# EAGLE library part ATMEGA644P/V_TQFP2 (library AVR micom)
ATMEGA644P TQFP pacage AVR micon series. producted by ATMEL.Co
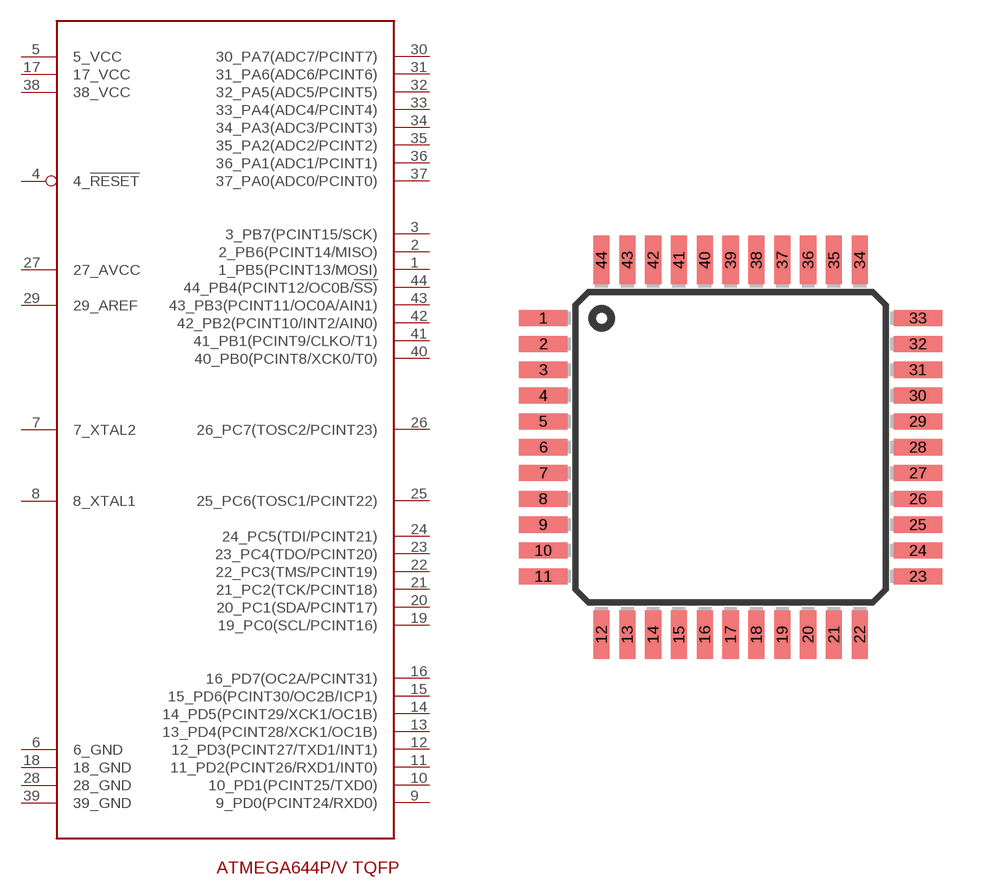
[diagram p2: symbol with the pads of TQFP44; footprint TQFP44]

Designator prefix U

## ATMEGA644P/V_TQFP2  [TQFP44]
1  1_PB5(PCINT13/MOSI)
2  2_PB6(PCINT14/MISO)
3  3_PB7(PCINT15/SCK)
4  4_!RESET
5  5_VCC
6  6_GND
7  7_XTAL2
8  8_XTAL1
9  9_PD0(PCINT24/RXD0)
10  10_PD1(PCINT25/TXD0)
11  11_PD2(PCINT26/RXD1/INT0)
12  12_PD3(PCINT27/TXD1/INT1)
13  13_PD4(PCINT28/XCK1/OC1B)
14  14_PD5(PCINT29/XCK1/OC1B)
15  15_PD6(PCINT30/OC2B/ICP1)
16  16_PD7(OC2A/PCINT31)
17  17_VCC
18  18_GND
19  19_PC0(SCL/PCINT16)
20  20_PC1(SDA/PCINT17)
21  21_PC2(TCK/PCINT18)
22  22_PC3(TMS/PCINT19)
23  23_PC4(TDO/PCINT20)
24  24_PC5(TDI/PCINT21)
25  25_PC6(TOSC1/PCINT22)
26  26_PC7(TOSC2/PCINT23)
27  27_AVCC
28  28_GND
29  29_AREF
30  30_PA7(ADC7/PCINT7)
31  31_PA6(ADC6/PCINT6)
32  32_PA5(ADC5/PCINT5)
33  33_PA4(ADC4/PCINT4)
34  34_PA3(ADC3/PCINT3)
35  35_PA2(ADC2/PCINT2)
36  36_PA1(ADC1/PCINT1)
37  37_PA0(ADC0/PCINT0)
38  38_VCC
39  39_GND
40  40_PB0(PCINT8/XCK0/T0)
41  41_PB1(PCINT9/CLKO/T1)
42  42_PB2(PCINT10/INT2/AIN0)
43  43_PB3(PCINT11/OC0A/AIN1)
44  44_PB4(PCINT12/OC0B/!SS)

## Footprint TQFP44 (pad centres in mm)
Thin Plasic Quad Flat Package
smd 1.5 x 0.5: 1 -5.8,4; 2 -5.8,3.2; 3 -5.8,2.4; 4 -5.8,1.6; 5 -5.8,0.8; 6 -5.8,0; 7 -5.8,-0.8; 8 -5.8,-1.6; 9 -5.8,-2.4; 10 -5.8,-3.2; 11 -5.8,-4; 23 5.8,-4; 24 5.8,-3.2; 25 5.8,-2.4; 26 5.8,-1.6; 27 5.8,-0.8; 28 5.8,0; 29 5.8,0.8; 30 5.8,1.6; 31 5.8,2.4; 32 5.8,3.2; 33 5.8,4
smd 0.5 x 1.5: 12 -4,-5.8; 13 -3.2,-5.8; 14 -2.4,-5.8; 15 -1.6,-5.8; 16 -0.8,-5.8; 17 0,-5.8; 18 0.8,-5.8; 19 1.6,-5.8; 20 2.4,-5.8; 21 3.2,-5.8; 22 4,-5.8; 34 4,5.8; 35 3.2,5.8; 36 2.4,5.8; 37 1.6,5.8; 38 0.8,5.8; 39 0,5.8; 40 -0.8,5.8; 41 -1.6,5.8; 42 -2.4,5.8; 43 -3.2,5.8; 44 -4,5.8